# Altium integrated library LM350T.IntLib: 1 symbol
Pins are listed as number, name and electrical type; pins without a type are passive.

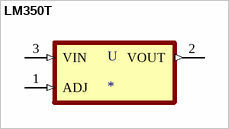
[diagram p0: symbol LM350T]

## LM350T
designator U
Linear Voltage Regulator IC 1 Output 3A TO-220-3; MF: ON Semiconductor; MP: LM350T; Value: *; Package: TO-220 Texas Instruments; Availability: Unavailable; SnapEDA_Link: https://www.snapeda.com/parts/LM350T/ON%20Semiconductor/view-part/1649124/?ref=snap; Price: None
footprint TO254P1054X470X1955-3
pins: 1 ADJ (in), 2 VOUT (out), 3 VIN (in)